# Altium schematic symbol library SCH - MCU - NUVOTON - NUVOTON NUC122SC1AN.SchLib: 1 symbol
Pins are listed as number, name and electrical type; pins without a type are passive.

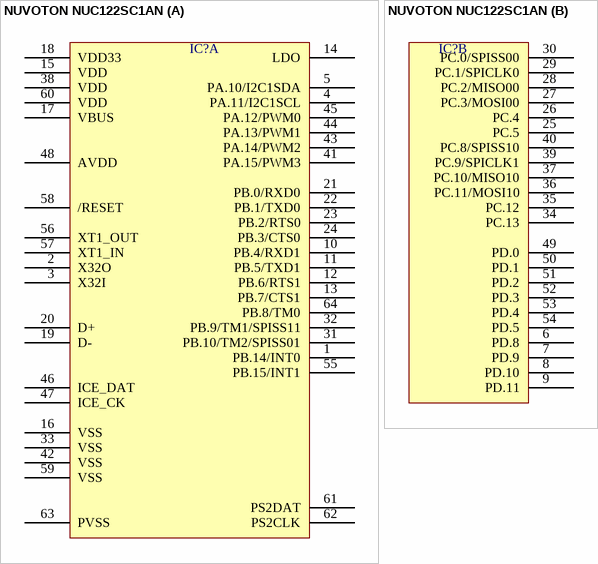
[diagram p0: symbol NUVOTON NUC122SC1AN]

## NUVOTON NUC122SC1AN
designator IC?  (value not drawn)
part A pins: 1 PB.14/INT0, 2 X32O, 3 X32I, 4 PA.11/I2C1SCL, 5 PA.10/I2C1SDA, 10 PB.4/RXD1, 11 PB.5/TXD1, 12 PB.6/RTS1, 13 PB.7/CTS1, 14 LDO, 15 VDD, 16 VSS, 17 VBUS, 18 VDD33, 19 D-, 20 D+, 21 PB.0/RXD0, 22 PB.1/TXD0, 23 PB.2/RTS0, 24 PB.3/CTS0, 31 PB.10/TM2/SPISS01, 32 PB.9/TM1/SPISS11, 33 VSS, 38 VDD, 41 PA.15/PWM3, 42 VSS, 43 PA.14/PWM2, 44 PA.13/PWM1, 45 PA.12/PWM0, 46 ICE_DAT, 47 ICE_CK, 48 AVDD, 55 PB.15/INT1, 56 XT1_OUT, 57 XT1_IN, 58 /RESET, 59 VSS, 60 VDD, 61 PS2DAT, 62 PS2CLK, 63 PVSS, 64 PB.8/TM0
part B pins: 6 PD.8, 7 PD.9, 8 PD.10, 9 PD.11, 25 PC.5, 26 PC.4, 27 PC.3/MOSI00, 28 PC.2/MISO00, 29 PC.1/SPICLK0, 30 PC.0/SPISS00, 34 PC.13, 35 PC.12, 36 PC.11/MOSI10, 37 PC.10/MISO10, 39 PC.9/SPICLK1, 40 PC.8/SPISS10, 49 PD.0, 50 PD.1, 51 PD.2, 52 PD.3, 53 PD.4, 54 PD.5